# EAGLE library part R/2R-5 (library RESISTOR_SIL)
R/2R Ladder 5 Murata RGSD10L
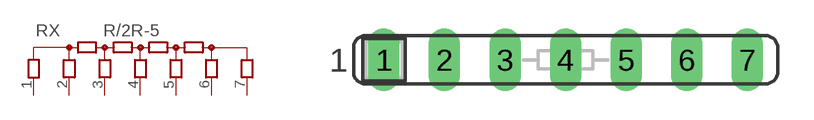
[diagram p40: symbol with the pads of SIL7; footprint SIL7]

Designator prefix RX

## R/2R-5  [SIL7]
1  IN  pas
2  B5  pas
3  B4  pas
4  B3  pas
5  B2  pas
6  B1  pas
7  OUT  pas

## Footprint SIL7 (pad centres in mm)
Single In Line
drill 0.813 long: 1 -7.62,0; 2 -5.08,0; 3 -2.54,0; 4 0,0; 5 2.54,0; 6 5.08,0; 7 7.62,0